# Altium schematic symbol library FSMIJ6.Schlib: 1 symbol
Pins are listed as number, name and electrical type; pins without a type are passive.

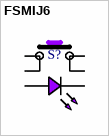
[diagram p0: symbol FSMIJ6]

## FSMIJ6
designator S?
tactile illuminated switch 6X6
pins: 1, 2, 3, 4, 5, 6